# Altium schematic symbol library Schlib1.SchLib: 1 symbol
Pins are listed as number, name and electrical type; pins without a type are passive.

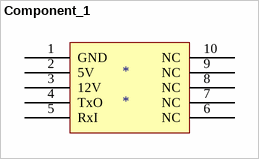
[diagram p0: symbol Component_1]

## Component_1
designator *
footprint Header10Coude
footprint HEADERACHEVAL
footprint HEADERDroit
pins: 1 GND, 2 5V, 3 12V, 4 TxO, 5 RxI, 6 NC, 7 NC, 8 NC, 9 NC, 10 NC